# Altium footprint library XH2.54.PcbLib: 64 footprints (part 1 of 4)
Each footprint in its own frame and in the unit in brackets; x right, y up, seen from the top. Pads: shape width x height; smd on the part's side, far side on the other; paste and mask are expansions set on the pad; w line width, h text height; cw(c..) or ccw(c..) is an arc to the next point about the centre after c.
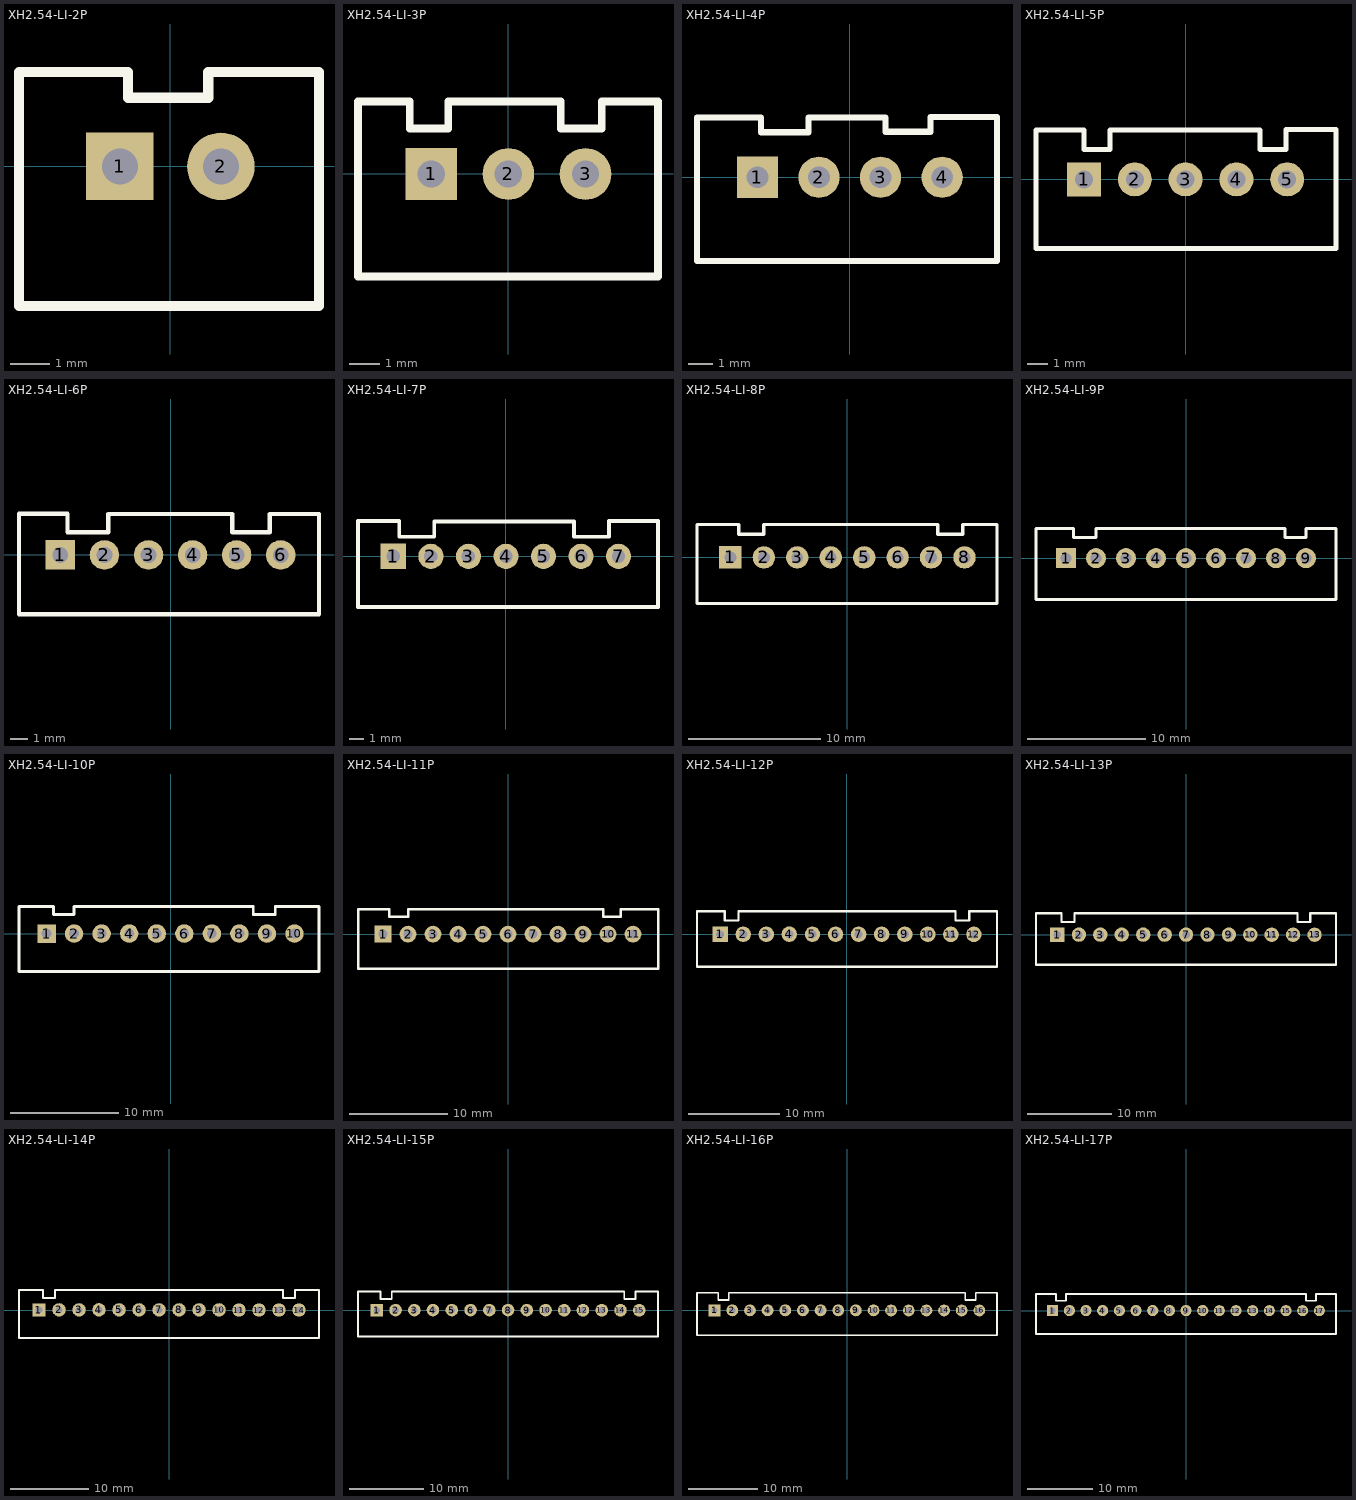
[diagram p0: the footprints below, top view; thin cyan lines are the x and y axes]

## XH2.54-LI-2P [mm] "接插件，2P"
pads (2):
  rect 1.7x1.7 hole 0.9: 1(-1.27,0)
  round 1.7 hole 0.9: 2(1.27,0)
Top Overlay:
  lines w0.254: -3.807,-3.505 -3.807,2.37 -1.067,2.37 -1.067,1.727 0.953,1.727 0.953,2.37 2.954,2.37 3.736,2.37 3.736,-3.505 -3.807,-3.505
3D body: height 7.05, standoff -2.45, extent -3.77,-3.3 3.77,2.4

## XH2.54-LI-3P [mm] "接插件，3P"
pads (3):
  rect 1.7x1.7 hole 0.9: 1(-2.54,0)
  round 1.7 hole 0.9: 2(0,0) 3(2.54,0)
Top Overlay:
  lines w0.254: -4.953,-3.378 4.928,-3.378 4.928,2.388 3.073,2.388 3.073,1.5 1.727,1.5 1.727,2.388 -1.981,2.388 -1.981,1.5 -3.251,1.5 -3.251,2.388 -4.953,2.388 -4.953,-3.378
3D body: height 7.03, standoff -2.47, extent -5.04,-3.3 5.04,2.4

## XH2.54-LI-4P [mm] "接插件，4P"
pads (4):
  rect 1.7x1.7 hole 0.9: 1(-3.81,0)
  round 1.7 hole 0.9: 2(-1.27,0) 3(1.27,0) 4(3.81,0)
Top Overlay:
  lines w0.254: -6.299,-3.454 -6.299,2.464 -3.658,2.464 -3.658,1.854 -1.702,1.854 -1.702,2.464 1.473,2.464 1.473,1.88 3.327,1.88 3.327,2.489 6.071,2.489 6.071,-3.454 -6.299,-3.454
3D body: height 7.03, standoff -2.47, extent -6.31,-3.3 6.31,2.4

## XH2.54-LI-5P [mm] "接插件，5P"
pads (5):
  rect 1.7x1.7 hole 0.9: 1(-5.08,0)
  round 1.7 hole 0.9: 2(-2.54,0) 3(0,0) 4(2.54,0) 5(5.08,0)
Top Overlay:
  lines w0.254: -3.78,2.438 -3.78,1.5 -5.08,1.5 -5.08,2.464 -7.48,2.464 -7.48,-3.454 7.52,-3.454 7.52,2.489 5.02,2.489 5.02,1.5 3.72,1.5 3.72,2.464 -3.78,2.464
3D body: height 7.03, standoff -2.47, extent -7.58,-3.3 7.58,2.4

## XH2.54-LI-6P [mm] "接插件，6P"
pads (6):
  rect 1.7x1.7 hole 0.9: 1(-6.35,0)
  round 1.7 hole 0.9: 2(-3.81,0) 3(-1.27,0) 4(1.27,0) 5(3.81,0) 6(6.35,0)
Top Overlay:
  lines w0.254: -8.738,-3.429 -8.738,2.388 -5.944,2.388 -5.944,1.321 -3.581,1.321 -3.581,2.362 3.556,2.362 3.556,1.321 5.715,1.321 5.715,2.362 8.56,2.362 8.56,-3.429 -8.738,-3.429
3D body: height 7.03, standoff -2.47, extent -8.85,-3.3 8.85,2.4

## XH2.54-LI-7P [mm] "接插件，7P"
pads (7):
  rect 1.7x1.7 hole 0.9: 1(-7.62,0)
  round 1.7 hole 0.9: 2(-5.08,0) 3(-2.54,0) 4(0,0) 5(2.54,0) 6(5.08,0) 7(7.62,0)
Top Overlay:
  lines w0.254: -10.008,-3.429 7.29,-3.429 10.287,-3.429 10.287,2.388 6.974,2.388 6.974,1.321 4.611,1.321 4.611,2.362 2.286,2.362 -4.851,2.362 -4.851,1.321 -7.214,1.321 -7.214,2.388 -10.008,2.388 -10.008,-3.429
3D body: height 7.05, standoff -2.45, extent -10.12,-3.302 10.12,2.398

## XH2.54-LI-8P [mm] "接插件，8P"
pads (8):
  rect 1.7x1.7 hole 0.9: 1(-8.89,0)
  round 1.7 hole 0.9: 2(-6.35,0) 3(-3.81,0) 4(-1.27,0) 5(1.27,0) 6(3.81,0) 7(6.35,0) 8(8.89,0)
Top Overlay:
  lines w0.254: -11.43,-3.5 11.36,-3.5 11.36,2.5 8.763,2.5 8.763,1.75 6.858,1.75 6.858,2.5 -6.35,2.5 -6.35,1.75 -8.255,1.75 -8.255,2.5 -11.43,2.5 -11.43,-3.5
3D body: height 7.05, standoff -2.45, extent -11.39,-3.3 11.39,2.4

## XH2.54-LI-9P [mm] "接插件，9P"
pads (9):
  rect 1.7x1.7 hole 0.9: 1(-10.16,0)
  round 1.7 hole 0.9: 2(-7.62,0) 3(-5.08,0) 4(-2.54,0) 5(0,0) 6(2.54,0) 7(5.08,0) 8(7.62,0) 9(10.16,0)
Top Overlay:
  lines w0.254: -12.7,-3.5 12.7,-3.5 12.7,2.5 10.16,2.5 10.16,1.75 8.382,1.75 8.382,2.5 -7.62,2.5 -7.62,1.75 -9.525,1.75 -9.525,2.5 -12.7,2.5 -12.7,-3.5
3D body: height 7.05, standoff -3.35, extent -12.66,-3.3 12.66,2.4

## XH2.54-LI-10P [mm] "接插件，10P"
pads (10):
  rect 1.7x1.7 hole 0.9: 1(-11.43,0)
  round 1.7 hole 0.9: 2(-8.89,0) 3(-6.35,0) 4(-3.81,0) 5(-1.27,0) 6(1.27,0) 7(3.81,0) 8(6.35,0) 9(8.89,0) 10(11.43,0)
Top Overlay:
  lines w0.254: -13.97,-3.5 13.691,-3.5 13.691,2.5 9.652,2.5 9.652,1.75 7.62,1.75 7.62,2.5 -8.89,2.5 -8.89,1.75 -10.795,1.75 -10.795,2.5 -13.97,2.5 -13.97,-3.5
3D body: height 7.03, standoff -2.47, extent -13.93,-3.3 13.93,2.4

## XH2.54-LI-11P [mm] "接插件，11P"
pads (11):
  rect 1.7x1.7 hole 0.9: 1(-12.7,0)
  round 1.7 hole 0.9: 2(-10.16,0) 3(-7.62,0) 4(-5.08,0) 5(-2.54,0) 6(0,0) 7(2.54,0) 8(5.08,0) 9(7.62,0) 10(10.16,0) 11(12.7,0)
Top Overlay:
  lines w0.254: -15.24,-3.5 -15.24,2.5 -12.065,2.5 -12.065,1.75 -10.16,1.75 -10.16,2.5 9.652,2.5 9.652,1.75 11.43,1.75 11.43,2.5 15.24,2.5 15.24,-3.5 -15.24,-3.5
3D body: height 7.03, standoff -3.37, extent -15.2,-3.3 15.2,2.4

## XH2.54-LI-12P [mm] "接插件，12P"
pads (12):
  rect 1.7x1.7 hole 0.9: 1(-13.97,-0.009)
  round 1.7 hole 0.9: 2(-11.417,0.003) 3(-8.877,0.003) 4(-6.35,0.009) 5(-3.797,0.003) 6(-1.257,0.003) 7(1.283,0.003) 8(3.823,0.003) 9(6.363,0.003) 10(8.903,0.003) 11(11.43,-0.009) 12(13.97,-0.009)
Top Overlay:
  lines w0.254: -16.506,-3.565 -16.506,-2.025 -16.506,2.531 -13.462,2.531 -13.462,1.515 -11.938,1.515 -11.938,2.531 11.938,2.531 11.938,1.515 13.462,1.515 13.462,2.531 16.51,2.531 16.51,-3.565 -16.506,-3.565
3D body: height 7.05, standoff -2.45, extent -16.47,-3.309 16.47,2.391

## XH2.54-LI-13P [mm] "接插件，13P"
pads (13):
  rect 1.7x1.7 hole 0.9: 1(-15.244,0)
  round 1.7 hole 0.9: 2(-12.692,0.013) 3(-10.152,0.013) 4(-7.624,0.019) 5(-5.072,0.013) 6(-2.532,0.013) 7(0.008,0.013) 8(2.548,0.013) 9(5.088,0.013) 10(7.628,0.013) 11(10.156,0) 12(12.696,0) 13(15.24,0)
Top Overlay:
  lines w0.254: -17.78,-3.556 -17.78,-2.016 -17.78,2.54 -14.736,2.54 -14.736,1.524 -13.212,1.524 -13.212,2.54 13.208,2.54 13.208,1.524 14.732,1.524 14.732,2.54 17.78,2.54 17.78,-3.556 -17.78,-3.556
3D body: height 7.05, standoff -2.45, extent -17.74,-3.3 17.74,2.4

## XH2.54-LI-14P [mm] "接插件，14P"
pads (14):
  rect 1.7x1.7 hole 0.9: 1(-16.514,0)
  round 1.7 hole 0.9: 2(-13.962,0.013) 3(-11.422,0.013) 4(-8.894,0.019) 5(-6.342,0.013) 6(-3.802,0.013) 7(-1.262,0.013) 8(1.278,0.013) 9(3.818,0.013) 10(6.358,0.013) 11(8.886,0) 12(11.426,0) 13(13.97,0) 14(16.51,0)
Top Overlay:
  lines w0.254: -19.05,-3.556 19.05,-3.556 19.05,2.54 16.002,2.54 16.002,1.524 14.478,1.524 14.478,2.54 -14.482,2.54 -14.482,1.524 -16.006,1.524 -16.006,2.54 -19.05,2.54 -19.05,-2.016 -19.05,-3.556
3D body: height 7.05, standoff -2.45, extent -19.01,-3.3 19.01,2.4

## XH2.54-LI-15P [mm] "接插件，15P"
pads (15):
  rect 1.7x1.7 hole 0.9: 1(-17.793,-0.013)
  round 1.7 hole 0.9: 2(-15.24,0) 3(-12.7,0) 4(-10.173,0.006) 5(-7.62,0) 6(-5.08,0) 7(-2.54,0) 8(0,0) 9(2.54,0) 10(5.08,0) 11(7.607,-0.013) 12(10.147,-0.013) 13(12.692,-0.013) 14(15.232,-0.013) 15(17.772,-0.013)
Top Overlay:
  lines w0.254: -20.328,-3.569 -20.328,-2.028 -20.328,2.527 -17.285,2.527 -17.285,1.511 -15.761,1.511 -15.761,2.527 15.74,2.527 15.74,1.511 17.264,1.511 17.264,2.527 20.312,2.527 20.312,-3.569 -20.328,-3.569
3D body: height 7.05, standoff -2.45, extent -20.293,-3.313 20.267,2.387

## XH2.54-LI-16P [mm] "接插件，16P"
pads (16):
  rect 1.7x1.7 hole 0.9: 1(-19.054,0)
  round 1.7 hole 0.9: 2(-16.502,0.013) 3(-13.962,0.013) 4(-11.434,0.019) 5(-8.882,0.013) 6(-6.342,0.013) 7(-3.802,0.013) 8(-1.262,0.013) 9(1.278,0.013) 10(3.818,0.013) 11(6.346,0) 12(8.886,0) 13(11.43,0) 14(13.97,0) 15(16.51,0) 16(19.05,0)
Top Overlay:
  lines w0.254: -21.59,-3.556 -21.59,-2.016 -21.59,2.54 -18.546,2.54 -18.546,1.524 -17.022,1.524 -17.022,2.54 17.018,2.54 17.018,1.524 18.542,1.524 18.542,2.54 21.59,2.54 21.59,-3.556 -21.59,-3.556
3D body: height 7.05, standoff -2.45, extent -21.55,-3.3 21.55,2.4

## XH2.54-LI-17P [mm] "接插件，17P"
pads (17):
  rect 1.7x1.7 hole 0.9: 1(-20.333,-0.013)
  round 1.7 hole 0.9: 2(-17.78,0) 3(-15.24,0) 4(-12.713,0.006) 5(-10.16,0) 6(-7.62,0) 7(-5.08,0) 8(-2.54,0) 9(0,0) 10(2.54,0) 11(5.067,-0.013) 12(7.607,-0.013) 13(10.152,-0.013) 14(12.692,-0.013) 15(15.232,-0.013) 16(17.772,-0.013) 17(20.312,-0.013)
Top Overlay:
  lines w0.254: -22.868,-3.569 22.852,-3.569 22.852,2.527 19.804,2.527 19.804,1.511 18.28,1.511 18.28,2.527 -18.301,2.527 -18.301,1.511 -19.825,1.511 -19.825,2.527 -22.868,2.527 -22.868,-2.028 -22.868,-3.569
3D body: height 7.05, standoff -2.45, extent -22.82,-3.3 22.82,2.4